# Altium schematic symbol library UP20-C-F-G-FL-1-P12-TR(1).SchLib: 1 symbol
Pins are listed as number, name and electrical type; pins without a type are passive.

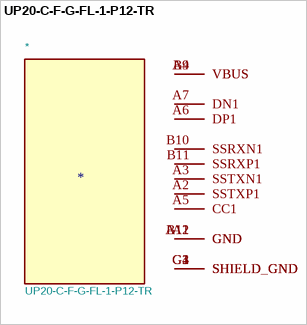
[diagram p0: symbol UP20-C-F-G-FL-1-P12-TR]

## UP20-C-F-G-FL-1-P12-TR
designator *  value UP20-C-F-G-FL-1-P12-TR
\n                        \n                            Type C, USB 2.0, 480 Mbps, 20 Vac, 5 A, Free- line, Gold Plated 1u,Dip Shell, 12 pin, USB Plug Connector\n                        \n; MF: Same Sky; Footprint: UP20-C-F-G-FL-1-P12-TR:SAMESKY_UP20-C-F-G-FL-1-P12-TR; MAXIMUM_PACKAGE_HEIGHT: 1.83mm; Package: None; Price: None; Check_prices: https://www.snapeda.com/parts/UP20-C-F-G-FL-1-P12-TR/Same+Sky/view-part/?ref=eda; STANDARD: Manufacturer Recommendations; PARTREV: 1.0; SnapEDA_Link: https://www.snapeda.com/parts/UP20-C-F-G-FL-1-P12-TR/Same+Sky/view-part/?ref=snap; MP: UP20-C-F-G-FL-1-P12-TR; Description_: \n                        \n                            Type C, USB 2.0, 480 Mbps, 20 Vac, 5 A, Free- line, Gold Plated 1u,Dip Shell, 12 pin, USB Plug Connector\n                        \n; Availability: In Stock; MANUFACTURER: Same Sky
footprint SAMESKY_UP20-C-F-G-FL-1-P12-TR
pins: A1 GND, A2 SSTXP1, A3 SSTXN1, A4 VBUS, A5 CC1, A6 DP1, A7 DN1, A12 GND, B9 VBUS, B10 SSRXN1, B11 SSRXP1, B12 GND, G1 SHIELD_GND, G2 SHIELD_GND, G3 SHIELD_GND, G4 SHIELD_GND